# EAGLE library part FT232R (library den)
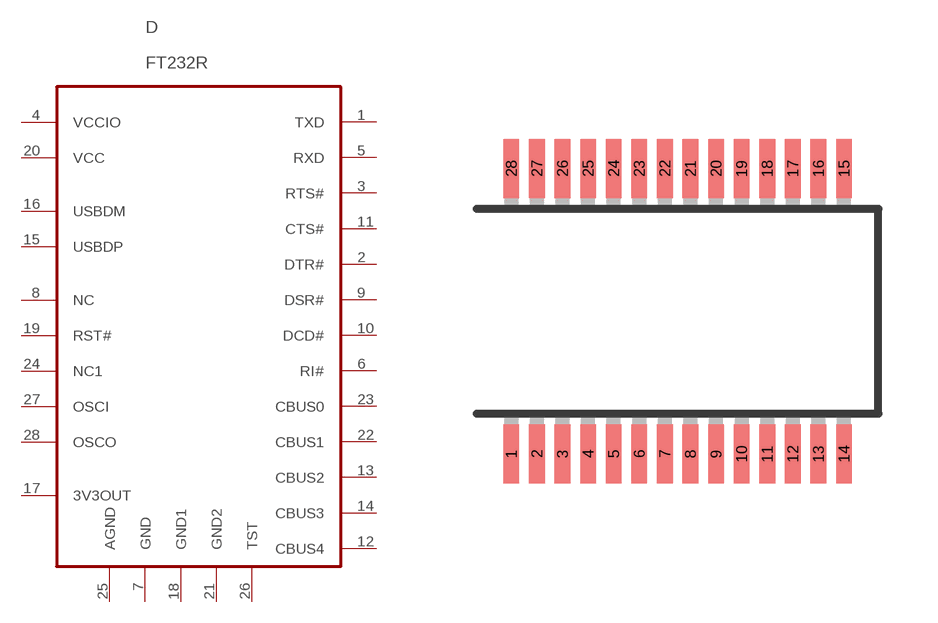
[diagram p32: symbol with the pads of SSOP28; footprint SSOP28]

Designator prefix D

## FT232R  [SSOP28]
1  TXD
2  DTR#
3  RTS#
4  VCCIO  pwr
5  RXD
6  RI#
7  GND  pwr
8  NC  nc
9  DSR#
10  DCD#
11  CTS#
12  CBUS4
13  CBUS2
14  CBUS3
15  USBDP
16  USBDM
17  3V3OUT  pwr
18  GND1  pwr
19  RST#
20  VCC  pwr
21  GND2  pwr
22  CBUS1
23  CBUS0
24  NC1  nc
25  AGND  pwr
26  TST
27  OSCI
28  OSCO

## Footprint SSOP28 (pad centres in mm)
Shrink Small Outline Package package type SS
smd 0.4 x 1.5: 1 -4.225,-3.625; 2 -3.575,-3.625; 3 -2.925,-3.625; 4 -2.275,-3.625; 5 -1.625,-3.625; 6 -0.975,-3.625; 7 -0.325,-3.625; 8 0.325,-3.625; 9 0.975,-3.625; 10 1.625,-3.625; 11 2.275,-3.625; 12 2.925,-3.625; 13 3.575,-3.625; 14 4.225,-3.625; 15 4.225,3.625; 16 3.575,3.625; 17 2.925,3.625; 18 2.275,3.625; 19 1.625,3.625; 20 0.975,3.625; 21 0.325,3.625; 22 -0.325,3.625; 23 -0.975,3.625; 24 -1.625,3.625; 25 -2.275,3.625; 26 -2.925,3.625; 27 -3.575,3.625; 28 -4.225,3.625